# Altium footprint library Connector_PinHeader_2.54mm.PcbLib: 278 footprints (part 11 of 18)
Each footprint in its own frame and in the unit in brackets; x right, y up, seen from the top. Pads: shape width x height; smd on the part's side, far side on the other; paste and mask are expansions set on the pad; w line width, h text height; cw(c..) or ccw(c..) is an arc to the next point about the centre after c.
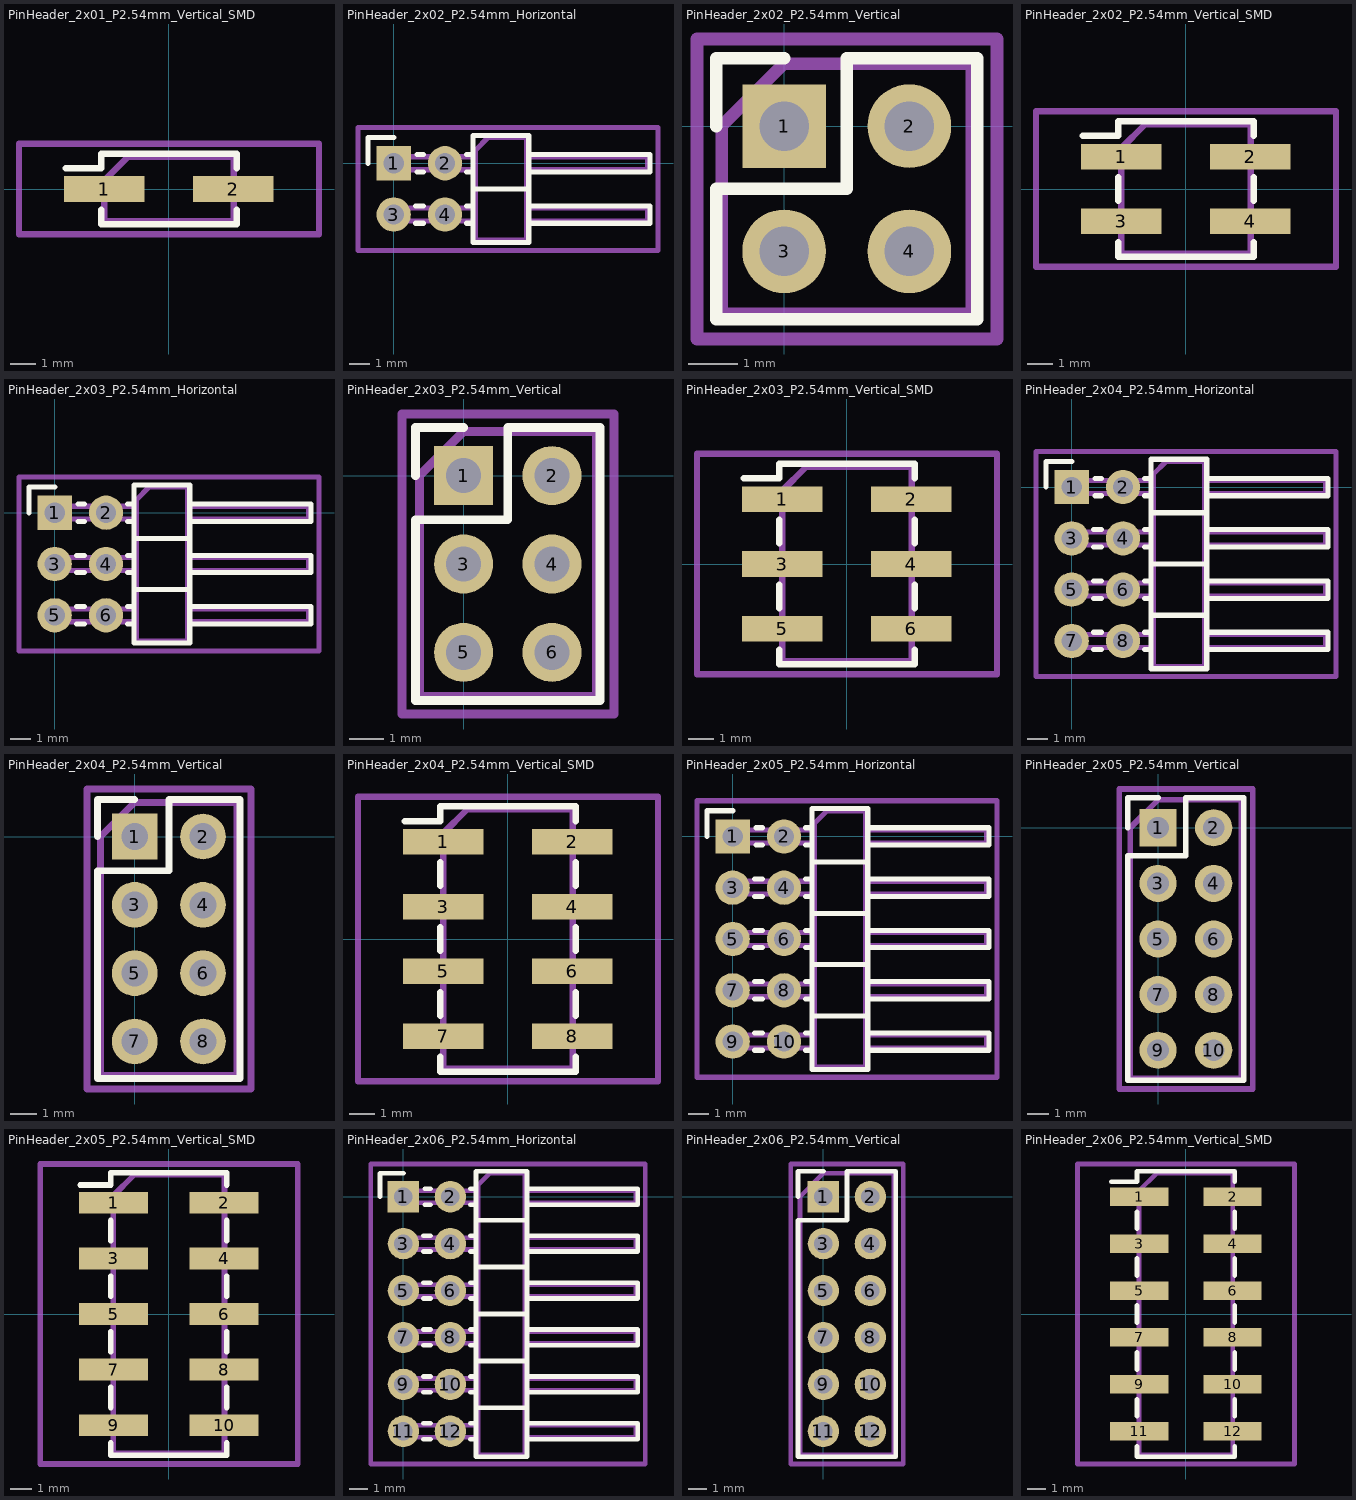
[diagram p10: the footprints below, top view; thin cyan lines are the x and y axes]

## PinHeader_2x01_P2.54mm_Vertical_SMD [mm]
pads (2):
  rect 3.15x1 smd: 1(-2.525,0) 2(2.525,0)
F.SilkS:
  lines w0.254: -4.04,0.81 -2.65,0.81 -2.65,1.38 2.65,1.38 2.65,0.81 ; -2.65,-0.81 -2.65,-1.38 2.65,-1.38 2.65,-0.81
Top Assembly:
  lines w0.254: -2.54,-0.32 -3.6,-0.32 -3.6,0.32 -2.54,0.32 ; 2.54,-0.32 3.6,-0.32 3.6,0.32 2.54,0.32 ; -2.54,0.32 -2.54,-1.27 2.54,-1.27 2.54,1.27 -1.59,1.27 -2.54,0.32
  text "'.Designator'" at 0.84,-4.047 h1
Top Courtyard:
  lines w0.254: -5.87,-1.77 5.88,-1.77 5.88,1.77 -5.87,1.77 -5.87,-1.77
Top Designator:
  text ".Designator" at -7.613,-0.658 h1.52

## PinHeader_2x02_P2.54mm_Horizontal [mm]
pads (4):
  rect 1.7x1.7 hole 1: 1(0,0)
  round 1.7 hole 1: 2(2.54,0) 3(0,-2.54) 4(2.54,-2.54)
F.SilkS:
  lines w0.254: -1.27,0 -1.27,1.27 0,1.27 ; 1.077,-2.97 1.463,-2.97 ; 1.077,-2.11 1.463,-2.11 ; 1.16,-0.43 1.463,-0.43 ; 1.16,0.43 1.463,0.43 ; 3.617,-2.97 3.93,-2.97 ; 3.617,-2.11 3.93,-2.11 ; 3.617,-0.43 3.93,-0.43 ; 3.617,0.43 3.93,0.43 ; 3.93,-1.27 6.69,-1.27 ; 6.69,-2.97 12.69,-2.97 12.69,-2.11 6.69,-2.11 ; 3.93,-3.92 6.69,-3.92 6.69,1.38 3.93,1.38 3.93,-3.92 ; 6.69,-0.43 12.69,-0.43 12.69,0.43 6.69,0.43 6.69,-0.43
Top Assembly:
  lines w0.254: 4.04,-2.86 -0.32,-2.86 -0.32,-2.22 4.04,-2.22 ; 4.04,-0.32 -0.32,-0.32 -0.32,0.32 4.04,0.32 ; 6.58,-2.86 12.58,-2.86 12.58,-2.22 6.58,-2.22 ; 6.58,-0.32 12.58,-0.32 12.58,0.32 6.58,0.32 ; 4.04,-3.81 6.58,-3.81 6.58,1.27 4.675,1.27 4.04,0.635 4.04,-3.81
  text "'.Designator'" at 6.15,-5.317 h1
Top Courtyard:
  lines w0.254: -1.77,-4.32 13.09,-4.32 13.09,1.77 -1.77,1.77 -1.77,-4.32
Top Designator:
  text ".Designator" at -1.958,-1.928 h1.52

## PinHeader_2x02_P2.54mm_Vertical [mm]
pads (4):
  rect 1.7x1.7 hole 1: 1(0,0)
  round 1.7 hole 1: 2(2.54,0) 3(0,-2.54) 4(2.54,-2.54)
F.SilkS:
  lines w0.254: -1.38,0 -1.38,1.38 0,1.38 ; -1.38,-3.92 3.92,-3.92 3.92,1.38 1.27,1.38 1.27,-1.27 -1.38,-1.27 -1.38,-3.92
Top Assembly:
  lines w0.254: -1.27,-3.81 3.81,-3.81 3.81,1.27 0,1.27 -1.27,0 -1.27,-3.81
  text "'.Designator'" at 2.11,-5.317 h1
Top Courtyard:
  lines w0.254: -1.77,-4.32 4.32,-4.32 4.32,1.77 -1.77,1.77 -1.77,-4.32
Top Designator:
  text ".Designator" at -6.343,-1.928 h1.52

## PinHeader_2x02_P2.54mm_Vertical_SMD [mm]
pads (4):
  rect 3.15x1 smd: 1(-2.525,1.27) 2(2.525,1.27) 3(-2.525,-1.27) 4(2.525,-1.27)
F.SilkS:
  lines w0.254: -4.04,2.08 -2.65,2.08 -2.65,2.65 2.65,2.65 2.65,2.08 ; -2.65,-2.08 -2.65,-2.65 2.65,-2.65 2.65,-2.08 ; -2.65,-0.46 -2.65,0.46 ; 2.65,-0.46 2.65,0.46
Top Assembly:
  lines w0.254: -2.54,-1.59 -3.6,-1.59 -3.6,-0.95 -2.54,-0.95 ; -2.54,0.95 -3.6,0.95 -3.6,1.59 -2.54,1.59 ; 2.54,-1.59 3.6,-1.59 3.6,-0.95 2.54,-0.95 ; 2.54,0.95 3.6,0.95 3.6,1.59 2.54,1.59 ; -2.54,1.59 -2.54,-2.54 2.54,-2.54 2.54,2.54 -1.59,2.54 -2.54,1.59
  text "'.Designator'" at 0.84,-4.047 h1
Top Courtyard:
  lines w0.254: -5.87,-3.04 5.88,-3.04 5.88,3.04 -5.87,3.04 -5.87,-3.04
Top Designator:
  text ".Designator" at -7.613,-0.658 h1.52

## PinHeader_2x03_P2.54mm_Horizontal [mm]
pads (6):
  rect 1.7x1.7 hole 1: 1(0,0)
  round 1.7 hole 1: 2(2.54,0) 3(0,-2.54) 4(2.54,-2.54) 5(0,-5.08) 6(2.54,-5.08)
F.SilkS:
  lines w0.254: -1.27,0 -1.27,1.27 0,1.27 ; 1.077,-5.51 1.463,-5.51 ; 1.077,-4.65 1.463,-4.65 ; 1.077,-2.97 1.463,-2.97 ; 1.077,-2.11 1.463,-2.11 ; 1.16,-0.43 1.463,-0.43 ; 1.16,0.43 1.463,0.43 ; 3.617,-5.51 3.93,-5.51 ; 3.617,-4.65 3.93,-4.65 ; 3.617,-2.97 3.93,-2.97 ; 3.617,-2.11 3.93,-2.11 ; 3.617,-0.43 3.93,-0.43 ; 3.617,0.43 3.93,0.43 ; 3.93,-3.81 6.69,-3.81 ; 3.93,-1.27 6.69,-1.27 ; 6.69,-5.51 12.69,-5.51 12.69,-4.65 6.69,-4.65 ; 6.69,-2.97 12.69,-2.97 12.69,-2.11 6.69,-2.11 ; 3.93,-6.46 6.69,-6.46 6.69,1.38 3.93,1.38 3.93,-6.46 ; 6.69,-0.43 12.69,-0.43 12.69,0.43 6.69,0.43 6.69,-0.43
Top Assembly:
  lines w0.254: 4.04,-5.4 -0.32,-5.4 -0.32,-4.76 4.04,-4.76 ; 4.04,-2.86 -0.32,-2.86 -0.32,-2.22 4.04,-2.22 ; 4.04,-0.32 -0.32,-0.32 -0.32,0.32 4.04,0.32 ; 6.58,-5.4 12.58,-5.4 12.58,-4.76 6.58,-4.76 ; 6.58,-2.86 12.58,-2.86 12.58,-2.22 6.58,-2.22 ; 6.58,-0.32 12.58,-0.32 12.58,0.32 6.58,0.32 ; 4.04,-6.35 6.58,-6.35 6.58,1.27 4.675,1.27 4.04,0.635 4.04,-6.35
  text "'.Designator'" at 6.15,-6.587 h1
Top Courtyard:
  lines w0.254: -1.77,-6.85 13.09,-6.85 13.09,1.77 -1.77,1.77 -1.77,-6.85
Top Designator:
  text ".Designator" at -1.958,-3.048 h1.52

## PinHeader_2x03_P2.54mm_Vertical [mm]
pads (6):
  rect 1.7x1.7 hole 1: 1(0,0)
  round 1.7 hole 1: 2(2.54,0) 3(0,-2.54) 4(2.54,-2.54) 5(0,-5.08) 6(2.54,-5.08)
F.SilkS:
  lines w0.254: -1.38,0 -1.38,1.38 0,1.38 ; -1.38,-6.46 3.92,-6.46 3.92,1.38 1.27,1.38 1.27,-1.27 -1.38,-1.27 -1.38,-6.46
Top Assembly:
  lines w0.254: -1.27,-6.35 3.81,-6.35 3.81,1.27 0,1.27 -1.27,0 -1.27,-6.35
  text "'.Designator'" at 2.11,-6.587 h1
Top Courtyard:
  lines w0.254: -1.77,-6.85 4.32,-6.85 4.32,1.77 -1.77,1.77 -1.77,-6.85
Top Designator:
  text ".Designator" at -6.343,-3.048 h1.52

## PinHeader_2x03_P2.54mm_Vertical_SMD [mm]
pads (6):
  rect 3.15x1 smd: 1(-2.525,2.54) 2(2.525,2.54) 3(-2.525,0) 4(2.525,0) 5(-2.525,-2.54) 6(2.525,-2.54)
F.SilkS:
  lines w0.254: -4.04,3.35 -2.65,3.35 -2.65,3.92 2.65,3.92 2.65,3.35 ; -2.65,-3.35 -2.65,-3.92 2.65,-3.92 2.65,-3.35 ; -2.65,-1.73 -2.65,-0.81 ; -2.65,0.81 -2.65,1.73 ; 2.65,-1.73 2.65,-0.81 ; 2.65,0.81 2.65,1.73
Top Assembly:
  lines w0.254: -2.54,-2.86 -3.6,-2.86 -3.6,-2.22 -2.54,-2.22 ; -2.54,-0.32 -3.6,-0.32 -3.6,0.32 -2.54,0.32 ; -2.54,2.22 -3.6,2.22 -3.6,2.86 -2.54,2.86 ; 2.54,-2.86 3.6,-2.86 3.6,-2.22 2.54,-2.22 ; 2.54,-0.32 3.6,-0.32 3.6,0.32 2.54,0.32 ; 2.54,2.22 3.6,2.22 3.6,2.86 2.54,2.86 ; -2.54,2.86 -2.54,-3.81 2.54,-3.81 2.54,3.81 -1.59,3.81 -2.54,2.86
  text "'.Designator'" at 0.84,-4.047 h1
Top Courtyard:
  lines w0.254: -5.87,-4.31 5.88,-4.31 5.88,4.31 -5.87,4.31 -5.87,-4.31
Top Designator:
  text ".Designator" at -7.613,-0.508 h1.52

## PinHeader_2x04_P2.54mm_Horizontal [mm]
pads (8):
  rect 1.7x1.7 hole 1: 1(0,0)
  round 1.7 hole 1: 2(2.54,0) 3(0,-2.54) 4(2.54,-2.54) 5(0,-5.08) 6(2.54,-5.08) 7(0,-7.62) 8(2.54,-7.62)
F.SilkS:
  lines w0.254: -1.27,0 -1.27,1.27 0,1.27 ; 1.077,-8.05 1.463,-8.05 ; 1.077,-7.19 1.463,-7.19 ; 1.077,-5.51 1.463,-5.51 ; 1.077,-4.65 1.463,-4.65 ; 1.077,-2.97 1.463,-2.97 ; 1.077,-2.11 1.463,-2.11 ; 1.16,-0.43 1.463,-0.43 ; 1.16,0.43 1.463,0.43 ; 3.617,-8.05 3.93,-8.05 ; 3.617,-7.19 3.93,-7.19 ; 3.617,-5.51 3.93,-5.51 ; 3.617,-4.65 3.93,-4.65 ; 3.617,-2.97 3.93,-2.97 ; 3.617,-2.11 3.93,-2.11 ; 3.617,-0.43 3.93,-0.43 ; 3.617,0.43 3.93,0.43 ; 3.93,-6.35 6.69,-6.35 ; 3.93,-3.81 6.69,-3.81 ; 3.93,-1.27 6.69,-1.27 ; 6.69,-8.05 12.69,-8.05 12.69,-7.19 6.69,-7.19 ; 6.69,-5.51 12.69,-5.51 12.69,-4.65 6.69,-4.65 ; 6.69,-2.97 12.69,-2.97 12.69,-2.11 6.69,-2.11 ; 3.93,-9 6.69,-9 6.69,1.38 3.93,1.38 3.93,-9 ; 6.69,-0.43 12.69,-0.43 12.69,0.43 6.69,0.43 6.69,-0.43
Top Assembly:
  lines w0.254: 4.04,-7.94 -0.32,-7.94 -0.32,-7.3 4.04,-7.3 ; 4.04,-5.4 -0.32,-5.4 -0.32,-4.76 4.04,-4.76 ; 4.04,-2.86 -0.32,-2.86 -0.32,-2.22 4.04,-2.22 ; 4.04,-0.32 -0.32,-0.32 -0.32,0.32 4.04,0.32 ; 6.58,-7.94 12.58,-7.94 12.58,-7.3 6.58,-7.3 ; 6.58,-5.4 12.58,-5.4 12.58,-4.76 6.58,-4.76 ; 6.58,-2.86 12.58,-2.86 12.58,-2.22 6.58,-2.22 ; 6.58,-0.32 12.58,-0.32 12.58,0.32 6.58,0.32 ; 4.04,-8.89 6.58,-8.89 6.58,1.27 4.675,1.27 4.04,0.635 4.04,-8.89
  text "'.Designator'" at 6.15,-7.857 h1
Top Courtyard:
  lines w0.254: -1.77,-9.39 13.09,-9.39 13.09,1.77 -1.77,1.77 -1.77,-9.39
Top Designator:
  text ".Designator" at -1.958,-4.318 h1.52

## PinHeader_2x04_P2.54mm_Vertical [mm]
pads (8):
  rect 1.7x1.7 hole 1: 1(0,0)
  round 1.7 hole 1: 2(2.54,0) 3(0,-2.54) 4(2.54,-2.54) 5(0,-5.08) 6(2.54,-5.08) 7(0,-7.62) 8(2.54,-7.62)
F.SilkS:
  lines w0.254: -1.38,0 -1.38,1.38 0,1.38 ; -1.38,-9 3.92,-9 3.92,1.38 1.27,1.38 1.27,-1.27 -1.38,-1.27 -1.38,-9
Top Assembly:
  lines w0.254: -1.27,-8.89 3.81,-8.89 3.81,1.27 0,1.27 -1.27,0 -1.27,-8.89
  text "'.Designator'" at 2.11,-7.857 h1
Top Courtyard:
  lines w0.254: -1.77,-9.39 4.32,-9.39 4.32,1.77 -1.77,1.77 -1.77,-9.39
Top Designator:
  text ".Designator" at -6.343,-4.318 h1.52

## PinHeader_2x04_P2.54mm_Vertical_SMD [mm]
pads (8):
  rect 3.15x1 smd: 1(-2.525,3.81) 2(2.525,3.81) 3(-2.525,1.27) 4(2.525,1.27) 5(-2.525,-1.27) 6(2.525,-1.27) 7(-2.525,-3.81) 8(2.525,-3.81)
F.SilkS:
  lines w0.254: -4.04,4.62 -2.65,4.62 -2.65,5.19 2.65,5.19 2.65,4.62 ; -2.65,-4.62 -2.65,-5.19 2.65,-5.19 2.65,-4.62 ; -2.65,-3 -2.65,-2.08 ; -2.65,-0.46 -2.65,0.46 ; -2.65,2.08 -2.65,3 ; 2.65,-3 2.65,-2.08 ; 2.65,-0.46 2.65,0.46 ; 2.65,2.08 2.65,3
Top Assembly:
  lines w0.254: -2.54,-4.13 -3.6,-4.13 -3.6,-3.49 -2.54,-3.49 ; -2.54,-1.59 -3.6,-1.59 -3.6,-0.95 -2.54,-0.95 ; -2.54,0.95 -3.6,0.95 -3.6,1.59 -2.54,1.59 ; -2.54,3.49 -3.6,3.49 -3.6,4.13 -2.54,4.13 ; 2.54,-4.13 3.6,-4.13 3.6,-3.49 2.54,-3.49 ; 2.54,-1.59 3.6,-1.59 3.6,-0.95 2.54,-0.95 ; 2.54,0.95 3.6,0.95 3.6,1.59 2.54,1.59 ; 2.54,3.49 3.6,3.49 3.6,4.13 2.54,4.13 ; -2.54,4.13 -2.54,-5.08 2.54,-5.08 2.54,5.08 -1.59,5.08 -2.54,4.13
  text "'.Designator'" at 0.84,-4.047 h1
Top Courtyard:
  lines w0.254: -5.87,-5.58 5.88,-5.58 5.88,5.58 -5.87,5.58 -5.87,-5.58
Top Designator:
  text ".Designator" at -7.613,-0.508 h1.52

## PinHeader_2x05_P2.54mm_Horizontal [mm]
pads (10):
  rect 1.7x1.7 hole 1: 1(0,0)
  round 1.7 hole 1: 2(2.54,0) 3(0,-2.54) 4(2.54,-2.54) 5(0,-5.08) 6(2.54,-5.08) 7(0,-7.62) 8(2.54,-7.62) 9(0,-10.16) 10(2.54,-10.16)
F.SilkS:
  lines w0.254: -1.27,0 -1.27,1.27 0,1.27 ; 1.077,-10.59 1.463,-10.59 ; 1.077,-9.73 1.463,-9.73 ; 1.077,-8.05 1.463,-8.05 ; 1.077,-7.19 1.463,-7.19 ; 1.077,-5.51 1.463,-5.51 ; 1.077,-4.65 1.463,-4.65 ; 1.077,-2.97 1.463,-2.97 ; 1.077,-2.11 1.463,-2.11 ; 1.16,-0.43 1.463,-0.43 ; 1.16,0.43 1.463,0.43 ; 3.617,-10.59 3.93,-10.59 ; 3.617,-9.73 3.93,-9.73 ; 3.617,-8.05 3.93,-8.05 ; 3.617,-7.19 3.93,-7.19 ; 3.617,-5.51 3.93,-5.51 ; 3.617,-4.65 3.93,-4.65 ; 3.617,-2.97 3.93,-2.97 ; 3.617,-2.11 3.93,-2.11 ; 3.617,-0.43 3.93,-0.43 ; 3.617,0.43 3.93,0.43 ; 3.93,-8.89 6.69,-8.89 ; 3.93,-6.35 6.69,-6.35 ; 3.93,-3.81 6.69,-3.81 ; 3.93,-1.27 6.69,-1.27 ; 6.69,-10.59 12.69,-10.59 12.69,-9.73 6.69,-9.73 ; 6.69,-8.05 12.69,-8.05 12.69,-7.19 6.69,-7.19 ; 6.69,-5.51 12.69,-5.51 12.69,-4.65 6.69,-4.65 ; 6.69,-2.97 12.69,-2.97 12.69,-2.11 6.69,-2.11 ; 3.93,-11.54 6.69,-11.54 6.69,1.38 3.93,1.38 3.93,-11.54 ; 6.69,-0.43 12.69,-0.43 12.69,0.43 6.69,0.43 6.69,-0.43
Top Assembly:
  lines w0.254: 4.04,-10.48 -0.32,-10.48 -0.32,-9.84 4.04,-9.84 ; 4.04,-7.94 -0.32,-7.94 -0.32,-7.3 4.04,-7.3 ; 4.04,-5.4 -0.32,-5.4 -0.32,-4.76 4.04,-4.76 ; 4.04,-2.86 -0.32,-2.86 -0.32,-2.22 4.04,-2.22 ; 4.04,-0.32 -0.32,-0.32 -0.32,0.32 4.04,0.32 ; 6.58,-10.48 12.58,-10.48 12.58,-9.84 6.58,-9.84 ; 6.58,-7.94 12.58,-7.94 12.58,-7.3 6.58,-7.3 ; 6.58,-5.4 12.58,-5.4 12.58,-4.76 6.58,-4.76 ; 6.58,-2.86 12.58,-2.86 12.58,-2.22 6.58,-2.22 ; 6.58,-0.32 12.58,-0.32 12.58,0.32 6.58,0.32 ; 4.04,-11.43 6.58,-11.43 6.58,1.27 4.675,1.27 4.04,0.635 4.04,-11.43
  text "'.Designator'" at 6.15,-9.127 h1
Top Courtyard:
  lines w0.254: -1.77,-11.93 13.09,-11.93 13.09,1.77 -1.77,1.77 -1.77,-11.93
Top Designator:
  text ".Designator" at -1.958,-5.588 h1.52

## PinHeader_2x05_P2.54mm_Vertical [mm]
pads (10):
  rect 1.7x1.7 hole 1: 1(0,0)
  round 1.7 hole 1: 2(2.54,0) 3(0,-2.54) 4(2.54,-2.54) 5(0,-5.08) 6(2.54,-5.08) 7(0,-7.62) 8(2.54,-7.62) 9(0,-10.16) 10(2.54,-10.16)
F.SilkS:
  lines w0.254: -1.38,0 -1.38,1.38 0,1.38 ; -1.38,-11.54 3.92,-11.54 3.92,1.38 1.27,1.38 1.27,-1.27 -1.38,-1.27 -1.38,-11.54
Top Assembly:
  lines w0.254: -1.27,-11.43 3.81,-11.43 3.81,1.27 0,1.27 -1.27,0 -1.27,-11.43
  text "'.Designator'" at 2.11,-9.127 h1
Top Courtyard:
  lines w0.254: -1.77,-11.93 4.32,-11.93 4.32,1.77 -1.77,1.77 -1.77,-11.93
Top Designator:
  text ".Designator" at -6.343,-5.588 h1.52

## PinHeader_2x05_P2.54mm_Vertical_SMD [mm]
pads (10):
  rect 3.15x1 smd: 1(-2.525,5.08) 2(2.525,5.08) 3(-2.525,2.54) 4(2.525,2.54) 5(-2.525,0) 6(2.525,0) 7(-2.525,-2.54) 8(2.525,-2.54) 9(-2.525,-5.08) 10(2.525,-5.08)
F.SilkS:
  lines w0.254: -4.04,5.89 -2.65,5.89 -2.65,6.46 2.65,6.46 2.65,5.89 ; -2.65,-5.89 -2.65,-6.46 2.65,-6.46 2.65,-5.89 ; -2.65,-4.27 -2.65,-3.35 ; -2.65,-1.73 -2.65,-0.81 ; -2.65,0.81 -2.65,1.73 ; -2.65,3.35 -2.65,4.27 ; 2.65,-4.27 2.65,-3.35 ; 2.65,-1.73 2.65,-0.81 ; 2.65,0.81 2.65,1.73 ; 2.65,3.35 2.65,4.27
Top Assembly:
  lines w0.254: -2.54,-5.4 -3.6,-5.4 -3.6,-4.76 -2.54,-4.76 ; -2.54,-2.86 -3.6,-2.86 -3.6,-2.22 -2.54,-2.22 ; -2.54,-0.32 -3.6,-0.32 -3.6,0.32 -2.54,0.32 ; -2.54,2.22 -3.6,2.22 -3.6,2.86 -2.54,2.86 ; -2.54,4.76 -3.6,4.76 -3.6,5.4 -2.54,5.4 ; 2.54,-5.4 3.6,-5.4 3.6,-4.76 2.54,-4.76 ; 2.54,-2.86 3.6,-2.86 3.6,-2.22 2.54,-2.22 ; 2.54,-0.32 3.6,-0.32 3.6,0.32 2.54,0.32 ; 2.54,2.22 3.6,2.22 3.6,2.86 2.54,2.86 ; 2.54,4.76 3.6,4.76 3.6,5.4 2.54,5.4 ; -2.54,5.4 -2.54,-6.35 2.54,-6.35 2.54,6.35 -1.59,6.35 -2.54,5.4
  text "'.Designator'" at 0.84,-4.047 h1
Top Courtyard:
  lines w0.254: -5.87,-6.85 5.88,-6.85 5.88,6.85 -5.87,6.85 -5.87,-6.85
Top Designator:
  text ".Designator" at -7.613,-0.508 h1.52

## PinHeader_2x06_P2.54mm_Horizontal [mm]
pads (12):
  rect 1.7x1.7 hole 1: 1(0,0)
  round 1.7 hole 1: 2(2.54,0) 3(0,-2.54) 4(2.54,-2.54) 5(0,-5.08) 6(2.54,-5.08) 7(0,-7.62) 8(2.54,-7.62) 9(0,-10.16) 10(2.54,-10.16) 11(0,-12.7) 12(2.54,-12.7)
F.SilkS:
  lines w0.254: -1.27,0 -1.27,1.27 0,1.27 ; 1.077,-13.13 1.463,-13.13 ; 1.077,-12.27 1.463,-12.27 ; 1.077,-10.59 1.463,-10.59 ; 1.077,-9.73 1.463,-9.73 ; 1.077,-8.05 1.463,-8.05 ; 1.077,-7.19 1.463,-7.19 ; 1.077,-5.51 1.463,-5.51 ; 1.077,-4.65 1.463,-4.65 ; 1.077,-2.97 1.463,-2.97 ; 1.077,-2.11 1.463,-2.11 ; 1.16,-0.43 1.463,-0.43 ; 1.16,0.43 1.463,0.43 ; 3.617,-13.13 3.93,-13.13 ; 3.617,-12.27 3.93,-12.27 ; 3.617,-10.59 3.93,-10.59 ; 3.617,-9.73 3.93,-9.73 ; 3.617,-8.05 3.93,-8.05 ; 3.617,-7.19 3.93,-7.19 ; 3.617,-5.51 3.93,-5.51 ; 3.617,-4.65 3.93,-4.65 ; 3.617,-2.97 3.93,-2.97 ; 3.617,-2.11 3.93,-2.11 ; 3.617,-0.43 3.93,-0.43 ; 3.617,0.43 3.93,0.43 ; 3.93,-11.43 6.69,-11.43 ; 3.93,-8.89 6.69,-8.89 ; 3.93,-6.35 6.69,-6.35 ; 3.93,-3.81 6.69,-3.81 ; 3.93,-1.27 6.69,-1.27 ; 6.69,-13.13 12.69,-13.13 12.69,-12.27 6.69,-12.27 ; 6.69,-10.59 12.69,-10.59 12.69,-9.73 6.69,-9.73 ; 6.69,-8.05 12.69,-8.05 12.69,-7.19 6.69,-7.19 ; 6.69,-5.51 12.69,-5.51 12.69,-4.65 6.69,-4.65 ; 6.69,-2.97 12.69,-2.97 12.69,-2.11 6.69,-2.11 ; 3.93,-14.08 6.69,-14.08 6.69,1.38 3.93,1.38 3.93,-14.08 ; 6.69,-0.43 12.69,-0.43 12.69,0.43 6.69,0.43 6.69,-0.43
Top Assembly:
  lines w0.254: 4.04,-13.02 -0.32,-13.02 -0.32,-12.38 4.04,-12.38 ; 4.04,-10.48 -0.32,-10.48 -0.32,-9.84 4.04,-9.84 ; 4.04,-7.94 -0.32,-7.94 -0.32,-7.3 4.04,-7.3 ; 4.04,-5.4 -0.32,-5.4 -0.32,-4.76 4.04,-4.76 ; 4.04,-2.86 -0.32,-2.86 -0.32,-2.22 4.04,-2.22 ; 4.04,-0.32 -0.32,-0.32 -0.32,0.32 4.04,0.32 ; 6.58,-13.02 12.58,-13.02 12.58,-12.38 6.58,-12.38 ; 6.58,-10.48 12.58,-10.48 12.58,-9.84 6.58,-9.84 ; 6.58,-7.94 12.58,-7.94 12.58,-7.3 6.58,-7.3 ; 6.58,-5.4 12.58,-5.4 12.58,-4.76 6.58,-4.76 ; 6.58,-2.86 12.58,-2.86 12.58,-2.22 6.58,-2.22 ; 6.58,-0.32 12.58,-0.32 12.58,0.32 6.58,0.32 ; 4.04,-13.97 6.58,-13.97 6.58,1.27 4.675,1.27 4.04,0.635 4.04,-13.97
  text "'.Designator'" at 6.15,-10.397 h1
Top Courtyard:
  lines w0.254: -1.77,-14.47 13.09,-14.47 13.09,1.77 -1.77,1.77 -1.77,-14.47
Top Designator:
  text ".Designator" at -1.958,-6.858 h1.52

## PinHeader_2x06_P2.54mm_Vertical [mm]
pads (12):
  rect 1.7x1.7 hole 1: 1(0,0)
  round 1.7 hole 1: 2(2.54,0) 3(0,-2.54) 4(2.54,-2.54) 5(0,-5.08) 6(2.54,-5.08) 7(0,-7.62) 8(2.54,-7.62) 9(0,-10.16) 10(2.54,-10.16) 11(0,-12.7) 12(2.54,-12.7)
F.SilkS:
  lines w0.254: -1.38,0 -1.38,1.38 0,1.38 ; -1.38,-14.08 3.92,-14.08 3.92,1.38 1.27,1.38 1.27,-1.27 -1.38,-1.27 -1.38,-14.08
Top Assembly:
  lines w0.254: -1.27,-13.97 3.81,-13.97 3.81,1.27 0,1.27 -1.27,0 -1.27,-13.97
  text "'.Designator'" at 2.11,-10.397 h1
Top Courtyard:
  lines w0.254: -1.77,-14.47 4.32,-14.47 4.32,1.77 -1.77,1.77 -1.77,-14.47
Top Designator:
  text ".Designator" at -6.343,-6.858 h1.52

## PinHeader_2x06_P2.54mm_Vertical_SMD [mm]
pads (12):
  rect 3.15x1 smd: 1(-2.525,6.35) 2(2.525,6.35) 3(-2.525,3.81) 4(2.525,3.81) 5(-2.525,1.27) 6(2.525,1.27) 7(-2.525,-1.27) 8(2.525,-1.27) 9(-2.525,-3.81) 10(2.525,-3.81) 11(-2.525,-6.35) 12(2.525,-6.35)
F.SilkS:
  lines w0.254: -4.04,7.16 -2.65,7.16 -2.65,7.73 2.65,7.73 2.65,7.16 ; -2.65,-7.16 -2.65,-7.73 2.65,-7.73 2.65,-7.16 ; -2.65,-5.54 -2.65,-4.62 ; -2.65,-3 -2.65,-2.08 ; -2.65,-0.46 -2.65,0.46 ; -2.65,2.08 -2.65,3 ; -2.65,4.62 -2.65,5.54 ; 2.65,-5.54 2.65,-4.62 ; 2.65,-3 2.65,-2.08 ; 2.65,-0.46 2.65,0.46 ; 2.65,2.08 2.65,3 ; 2.65,4.62 2.65,5.54
Top Assembly:
  lines w0.254: -2.54,-6.67 -3.6,-6.67 -3.6,-6.03 -2.54,-6.03 ; -2.54,-4.13 -3.6,-4.13 -3.6,-3.49 -2.54,-3.49 ; -2.54,-1.59 -3.6,-1.59 -3.6,-0.95 -2.54,-0.95 ; -2.54,0.95 -3.6,0.95 -3.6,1.59 -2.54,1.59 ; -2.54,3.49 -3.6,3.49 -3.6,4.13 -2.54,4.13 ; -2.54,6.03 -3.6,6.03 -3.6,6.67 -2.54,6.67 ; 2.54,-6.67 3.6,-6.67 3.6,-6.03 2.54,-6.03 ; 2.54,-4.13 3.6,-4.13 3.6,-3.49 2.54,-3.49 ; 2.54,-1.59 3.6,-1.59 3.6,-0.95 2.54,-0.95 ; 2.54,0.95 3.6,0.95 3.6,1.59 2.54,1.59 ; 2.54,3.49 3.6,3.49 3.6,4.13 2.54,4.13 ; 2.54,6.03 3.6,6.03 3.6,6.67 2.54,6.67 ; -2.54,6.67 -2.54,-7.62 2.54,-7.62 2.54,7.62 -1.59,7.62 -2.54,6.67
  text "'.Designator'" at 0.84,-4.047 h1
Top Courtyard:
  lines w0.254: -5.87,-8.12 5.88,-8.12 5.88,8.12 -5.87,8.12 -5.87,-8.12
Top Designator:
  text ".Designator" at -7.613,-0.508 h1.52